# EAGLE library part TL431_4ANODE (library ads4)
TL431 Adjustable Shunt Regulator (4 anodes)
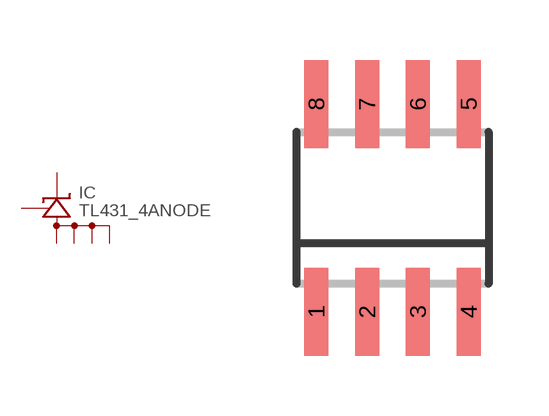
[diagram p64: symbol with the pads of SOIC8; footprint SOIC8]

Designator prefix IC

## TL431_4ANODESOIC8  [SOIC8]
1  C  pas
2  A1  pas
3  A2  pas
6  A3  pas
7  A4  pas
8  REF  pas

## Footprint SOIC8 (pad centres in mm)
Small Outline IC From ref-packages.lbr
smd 0.6 x 2.2: 1 -1.905,-2.6; 2 -0.635,-2.6; 3 0.635,-2.6; 4 1.905,-2.6; 5 1.905,2.6; 6 0.635,2.6; 7 -0.635,2.6; 8 -1.905,2.6